# EAGLE library part BL9352A (library dc-dc)
DC-DC Converters Step-Down Adjustable 1 4.5V 45V 0.795V 45V 600mA SOT-23-6L RoHS Datasheet <https://datasheet.lcsc.com/szlcsc/Shanghai-Belling-BL9352A_C193985.pdf>
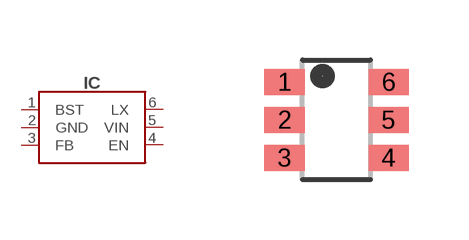
[diagram p6: symbol with the pads of SOT23-6; footprint SOT23-6]

Designator prefix IC

## BL9352A (LCSC#: C193985; MANF: Shanghai Belling; MANF#: BL9352A)  [SOT23-6]
1  BST
2  GND
3  FB
4  EN
5  VIN
6  LX

## Footprint SOT23-6 (pad centres in mm)
smd 1 x 0.65: 1 -1.3,0.95; 2 -1.3,0; 3 -1.3,-0.95; 4 1.3,-0.95; 5 1.3,0; 6 1.3,0.95